# Altium schematic symbol library PowerSupply.SchLib: 43 symbols (part 2 of 2)
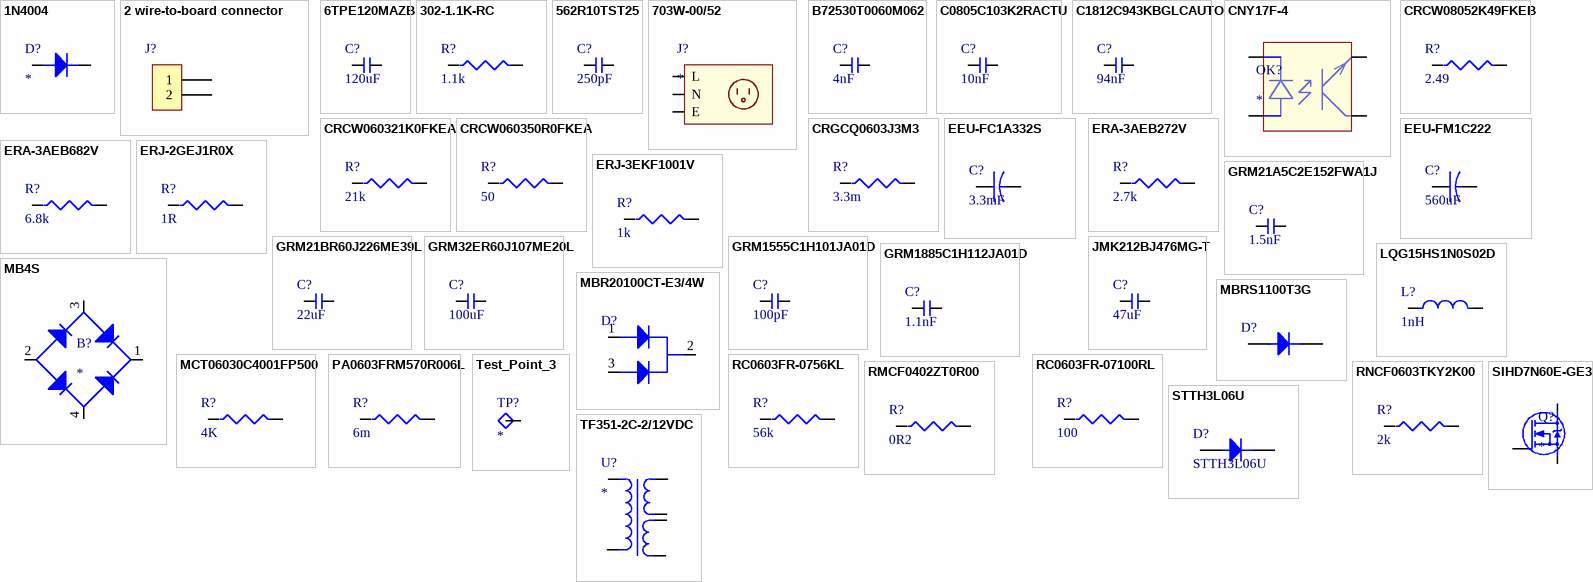
[diagram p2: symbols 1N4004 to TF351-2C-2/12VDC]

## MB4S
designator B?
Rectifier Bridge Diode Single 400V 0.5A 4-Pin SOIC N T/R / IC RECT BRIDGE 0.5A 400V 4SOIC; Manufacturer: ON Semiconductor / Fairchild; Manufacturer Part Number: MB4S; Supplier 1: Future Electronics; RoHS: Yes; Category: Rectifier Diodes; Stock 1: 6000; Pricing 1: 3000=0.114, 6000=0.111, 9000=0.11, 12000=0.109, 15000=0.106, 45000=0.106 (USD); Reverse Voltage: 400V; ComponentLink1URL: https://datasheet.ciiva.com/4433/mb4s-186124-4433195.pdf?src-supplier=Mouser; ComponentLink1Description: https://datasheet.ciiva.com/4433/mb4s-186124-4433195.pdf?src-supplier=Mouser; ComponentLink2URL: https://datasheet.ciiva.com/17038/mb4s-17038344.pdf?src-supplier=Future+Electronics; ComponentLink2Description: https://datasheet.ciiva.com/17038/mb4s-17038344.pdf?src-supplier=Future+Electronics; ComponentLink3URL: https://datasheet.ciiva.com/1197/1794557-1197746.pdf?src-supplier=Farnell; ComponentLink3Description: https://datasheet.ciiva.com/1197/1794557-1197746.pdf?src-supplier=Farnell; ComponentLink4URL: https://datasheet.ciiva.com/15145/getdatasheetpartid-117252-15145288.pdf?src-supplier=Verical; ComponentLink4Description: https://datasheet.ciiva.com/15145/getdatasheetpartid-117252-15145288.pdf?src-supplier=Verical; ComponentLink5URL: https://datasheet.ciiva.com/11195/mb8s-11195767.pdf?src-supplier=Avnet; ComponentLink5Description: https://datasheet.ciiva.com/11195/mb8s-11195767.pdf?src-supplier=Avnet; ComponentLink6URL: https://datasheet.ciiva.com/8018/1827136-8018971.pdf?src-supplier=Element14; ComponentLink6Description: https://datasheet.ciiva.com/8018/1827136-8018971.pdf?src-supplier=Element14; ComponentLink7URL: https://datasheet.ciiva.com/43505/974489-43505307.pdf?src-supplier=Jameco; ComponentLink7Description: https://datasheet.ciiva.com/43505/974489-43505307.pdf?src-supplier=Jameco; ComponentLink8URL: https://datasheet.ciiva.com/885/mb1s-885510.pdf?src-supplier=Digikey; ComponentLink8Description: https://datasheet.ciiva.com/885/mb1s-885510.pdf?src-supplier=Digikey; ComponentLink9URL: https://datasheet.ciiva.com/885/mb1s-885511.pdf?src-supplier=Digikey; ComponentLink9Description: https://datasheet.ciiva.com/885/mb1s-885511.pdf?src-supplier=Digikey; ComponentLink10URL: https://datasheet.ciiva.com/885/mb1s-885512.pdf?src-supplier=Digikey; ComponentLink10Description: https://datasheet.ciiva.com/885/mb1s-885512.pdf?src-supplier=Digikey; ComponentLink11URL: https://datasheet.ciiva.com/11195/mb8s-11195766.pdf?src-supplier=Avnet; ComponentLink11Description: https://datasheet.ciiva.com/11195/mb8s-11195766.pdf?src-supplier=Avnet
footprint MB4S
pins: 1, 2, 3, 4

## MBR20100CT-E3/4W
designator D?, comment MBR20100  (value not drawn)
Dual Common-Cathode High-Voltage Schottky Rectifier | DIODE ARRAY SCHOTTKY 100V TO220; Manufacturer: Vishay Semiconductors; Manufacturer Part Number: MBR20100CT-E3/4W; Supplier 1: Mouser; RoHS: Yes; Category: Rectifier Diodes; Stock 1: 7167; Pricing 1: 1=1.46, 10=1.2, 50=1.2, 100=0.93, 1000=0.622, 10000=0.532 (USD); ComponentLink1URL: https://datasheet.ciiva.com/16446/mbrb2080-16446902.pdf?src-supplier=Future+Electronics; ComponentLink1Description: https://datasheet.ciiva.com/16446/mbrb2080-16446902.pdf?src-supplier=Future+Electronics
footprint MBR20100
pins: 1 A, 2 C, 3 A

## MBRS1100T3G
designator D?, comment MBRS1100  (value not drawn)
VR=100V IF=1A; Manufacturer: ON Semiconductor; Manufacturer Part Number: MBRS1100T3G; Polarity: Standard; Voltage Rating (DC): 100V; Current Rating: 1A; Forward Voltage: 750mV; Max Reverse Current: 500uA; Max Surge Current: 50A; Element Configuration: Single; Supplier 1: Digi-Key; RoHS: Yes; Category: Schottky Diodes; Pricing 1: 1=0.47, 10=0.368, 100=0.2209, 500=0.20452, 1000=0.13908 (USD); Case/Package: SMB; Number of Pins: 2; Min Operating Temperature: -65°C; Max Operating Temperature: 175°C; Packaging: Tape and Reel; Output Current: 1A; Package Quantity: 1; Average Rectified Current: 1A; Max Reverse Voltage (DC): 100V; Max Reverse Leakage Current: 500uA; Max Repetitive Reverse Voltage (Vrrm): 100V; Max Forward Surge Current (Ifsm): 50A; Series: -; Forward Current: 1A; Peak Non-Repetitive Surge Current: 50A; Length: 4.32mm; Width: 3.56mm; Height: 2.13mm; Radiation Hardening: No; Lead Free: Lead Free; RoHS Compliant: Yes; Reach SVHC Compliant: No; Halogen Free: Halogen Free; ComponentLink1URL: https://datasheet.ciiva.com/14168/bwonsemico-schottky-diode-mbrs1100-en-14168057.pdf?src-supplier=Distrelec; ComponentLink1Description: https://datasheet.ciiva.com/14168/bwonsemico-schottky-diode-mbrs1100-en-14168057.pdf?src-supplier=Distrelec; ComponentLink2URL: https://datasheet.ciiva.com/34301/865813-34301615.pdf?src-supplier=Jameco; ComponentLink2Description: https://datasheet.ciiva.com/34301/865813-34301615.pdf?src-supplier=Jameco; ComponentLink3URL: https://datasheet.ciiva.com/16201/mbrs1100t3-d-16201409.pdf?src-supplier=Future+Electronics; ComponentLink3Description: https://datasheet.ciiva.com/16201/mbrs1100t3-d-16201409.pdf?src-supplier=Future+Electronics; ComponentLink4URL: https://datasheet.ciiva.com/14560/70099502-14560061.pdf?src-supplier=Allied+Electronics; ComponentLink4Description: https://datasheet.ciiva.com/14560/70099502-14560061.pdf?src-supplier=Allied+Electronics; ComponentLink5URL: https://datasheet.ciiva.com/7962/1708274-7962807.pdf?src-supplier=Element14; ComponentLink5Description: https://datasheet.ciiva.com/7962/1708274-7962807.pdf?src-supplier=Element14; ComponentLink6URL: https://datasheet.ciiva.com/7962/1708274-7962806.pdf?src-supplier=Element14; ComponentLink6Description: https://datasheet.ciiva.com/7962/1708274-7962806.pdf?src-supplier=Element14; ComponentLink7URL: https://datasheet.ciiva.com/8299/mbrs1100t3-d-8299829.pdf?src-supplier=Avnet; ComponentLink7Description: https://datasheet.ciiva.com/8299/mbrs1100t3-d-8299829.pdf?src-supplier=Avnet; ComponentLink8URL: https://datasheet.ciiva.com/15144/getdatasheetpartid-91859-15144701.pdf?src-supplier=Verical; ComponentLink8Description: https://datasheet.ciiva.com/15144/getdatasheetpartid-91859-15144701.pdf?src-supplier=Verical; ComponentLink9URL: https://datasheet.ciiva.com/915/mbrs1100t3-d-915741.pdf?src-supplier=Digi-Key; ComponentLink9Description: https://datasheet.ciiva.com/915/mbrs1100t3-d-915741.pdf?src-supplier=Digi-Key; ComponentLink10URL: https://datasheet.ciiva.com/915/mbrs1100t3-d-915742.pdf?src-supplier=Digi-Key; ComponentLink10Description: https://datasheet.ciiva.com/915/mbrs1100t3-d-915742.pdf?src-supplier=Digi-Key; ComponentLink11URL: https://datasheet.ciiva.com/915/mbrs1100t3-d-915740.pdf?src-supplier=Digi-Key; ComponentLink11Description: https://datasheet.ciiva.com/915/mbrs1100t3-d-915740.pdf?src-supplier=Digi-Key
footprint MBRS1100
pins: A, K

## MCT06030C4001FP500
designator R?, comment 4K
MCT Series Professional Thin Film Chip Resistor 0603 4K Ohm 1% Tolerance 0.125W ±50 ppm/K Surface Mount 2-Pin SMD...; Manufacturer: Vishay Beyschlag; Manufacturer Part Number: MCT06030C4001FP500; Resistance: 4kR; Supplier 1: Digikey; RoHS: Yes; Category: Chip SMD Resistors; Pricing 1: 5000=0.01939, 10000=0.0181, 25000=0.01719, 50000=0.01685, 125000=0.01648 (USD); RoHS Compliant: Yes; Lead Free: 5697LeadFree; ComponentLink1URL: http://www.vishay.com/docs/28705/mcx0x0xpro.pdf?src-supplier=Digikey; ComponentLink1Description: http://www.vishay.com/docs/28705/mcx0x0xpro.pdf?src-supplier=Digikey
footprint R0603
pins: 1, 2

## PA0603FRM570R006L
designator R?, comment 6m
Resistor Current Sense Metal Substrate 0603 6mOhm ±1% 1/2W ±50ppm/°C Paper T/R Automotive; Manufacturer: Yageo; Manufacturer Part Number: PA0603FRM570R006L; Supplier 1: Digikey; Category: Chip SMD Resistors; Pricing 1: 5000=0.10194 (USD); ComponentLink1URL: https://datasheet.octopart.com/PA0603FRM570R006L-Yageo-datasheet-86814980.pdf; ComponentLink1Description: https://datasheet.octopart.com/PA0603FRM570R006L-Yageo-datasheet-86814980.pdf
footprint R0603
pins: 1, 2

## RC0603FR-0756KL
designator R?, comment 56k
SMD Chip Resistor, 56 kOhm, ± 1%, 100 mW, 0603 [1608 Metric], Thick Film, General Purpose; Manufacturer: Yageo; Manufacturer Part Number: RC0603FR-0756KL; Resistance: 56kR; Power Rating: 100mW; Voltage Rating: 75V; Temperature Coefficient: 100ppm/°C; Voltage Rating (DC): 50V; Supplier 1: Future Electronics; RoHS: Yes; Category: Chip SMD Resistors; Stock 1: 8005000; Pricing 1: 5000=0.0015, 75000=0.0014, 200000=0.0013, 500000=0.0013, 1250000=0.0012 (USD); Case/Package: 0603; Number of Pins: 2; Case Code (Metric): 1608; Case Code (Imperial): 0603; Weight: 7.1E-05oz; Size Code: 0603; Min Operating Temperature: -55°C; Max Operating Temperature: 155°C; Tolerance: 1%; Packaging: Tape and Reel; Resistor Type: Thick Film; Termination: SMD/SMT; Series: RC; Number of Terminations: 2; Max Power Dissipation: 100mW; Features: Moisture Resistant; Resistance Tolerance: 1%; Construction: Rectangular; Voltage Rating (AC): 50V; Length: 1.6mm; Width: 0.8mm; Height: 0.45mm; Depth: 0.8mm; RoHS Compliant: Yes; Military Standard: Not; Reach SVHC Compliant: Unknown; Lead Free: 5697LeadFree; ComponentLink1URL: https://datasheet.ciiva.com/2508/pyu-r-int-thick-7-2508519.pdf?src-supplier=Digikey; ComponentLink1Description: https://datasheet.ciiva.com/2508/pyu-r-int-thick-7-2508519.pdf?src-supplier=Digikey; ComponentLink2URL: https://datasheet.ciiva.com/2508/pyu-r-int-thick-7-2508520.pdf?src-supplier=Digikey; ComponentLink2Description: https://datasheet.ciiva.com/2508/pyu-r-int-thick-7-2508520.pdf?src-supplier=Digikey; ComponentLink3URL: https://datasheet.ciiva.com/7746/443971-7746377.pdf?src-supplier=Element14; ComponentLink3Description: https://datasheet.ciiva.com/7746/443971-7746377.pdf?src-supplier=Element14; ComponentLink4URL: https://datasheet.ciiva.com/15189/getdatasheetpartid-329310-15189781.pdf?src-supplier=Verical; ComponentLink4Description: https://datasheet.ciiva.com/15189/getdatasheetpartid-329310-15189781.pdf?src-supplier=Verical; ComponentLink5URL: https://datasheet.ciiva.com/2508/pyu-r-int-thick-7-2508518.pdf?src-supplier=Digikey; ComponentLink5Description: https://datasheet.ciiva.com/2508/pyu-r-int-thick-7-2508518.pdf?src-supplier=Digikey; ComponentLink6URL: https://datasheet.ciiva.com/7746/443971-7746376.pdf?src-supplier=Element14; ComponentLink6Description: https://datasheet.ciiva.com/7746/443971-7746376.pdf?src-supplier=Element14
footprint R0603
pins: 1, 2

## RC0603FR-07100RL
designator R?, comment 100
SMD Chip Resistor, 100 Ohm, ± 1%, 100 mW, 0603 [1608 Metric], Thick Film, General Purpose; Manufacturer: Yageo; Manufacturer Part Number: RC0603FR-07100RL; Voltage Rating (DC): 50V; Resistance: 100R; Power Rating: 100mW; Temperature Coefficient: 100ppm/°C; Supplier 1: Future Electronics; RoHS: Yes; Category: Chip SMD Resistors; Stock 1: 15275000; Pricing 1: 5000=0.0015, 50000=0.0014, 150000=0.0014, 375000=0.0013, 1000000=0.0012 (USD); Case/Package: 0603; Number of Pins: 2; Case Code (Imperial): 0603; Case Code (Metric): 1608; Size Code: 0603; Min Operating Temperature: -55°C; Max Operating Temperature: 155°C; Voltage Rating: 50V; Tolerance: 1%; Packaging: Tape and Reel; Series: RC; Termination: SMD/SMT; Resistance Tolerance: 1%; Max Power Dissipation: 100mW; Number of Terminations: 2; Technology: THICK FILM; Features: Moisture Resistant; Construction: Rectangular; Resistor Type: Thick Film; Length: 1.6mm; Width: 0.8mm; Height: 0.45mm; Depth: 0.8mm; Lead Free: Lead Free; RoHS Compliant: Yes; Reach SVHC Compliant: Unknown; Military Standard: Not
footprint R0603 (Guidelines for Footprint Design - Walsin Technology Corporation)
pins: 1, 2

## RMCF0402ZT0R00
designator R?, comment 0R2
Res Thick Film 0402 0 Ohm Jumper Molded SMD Paper T/R; Manufacturer: Stackpole Electronics; Manufacturer Part Number: RMCF0402ZT0R00; Resistance: 0R; Power Rating: 63mW; Current Rating: 1A; Working Voltage: 50V; Supplier 1: Arrow Electronics; RoHS: Yes; Category: Chip SMD Resistors; Stock 1: 1190000; Pricing 1: 10000=0.0012, 30000=0.0011 (USD); Mount: Surface Mount; Case/Package: 0402; Case Code (Metric): 1005; Case Code (Imperial): 0402; Contact Plating: Tin,Matte; Min Operating Temperature: -55°C; Max Operating Temperature: 155°C; Packaging: Tape and Reel; Number of Terminations: 2; Max Power Dissipation: 63mW; Features: Automotive AEC-Q200; Series: RMCF; Technology: THICK FILM; Construction: Rectangular; Voltage Rating: 50V; Length: 0.039inch; Width: 0.02inch; Height: 0.016inch; Depth: 0.5mm; Radiation Hardening: No; Military Standard: Not; RoHS Compliant: Yes; Lead Free: 5697LeadFree; ComponentLink1URL: https://datasheet.ciiva.com/26835/getdatasheetpartid-409751-26835612.pdf?src-supplier=Verical; ComponentLink1Description: https://datasheet.ciiva.com/26835/getdatasheetpartid-409751-26835612.pdf?src-supplier=Verical
footprint R0402
pins: 1, 2

## RNCF0603TKY2K00
designator R?, comment 2k
RNCF Precision Thin Film Chip Resistor 0603 Size 2K Ohm 0.01% 0.1 W 5 ppm/°C 2-Pin SMD T/R; Manufacturer: Stackpole Electronics; Manufacturer Part Number: RNCF0603TKY2K00; Resistance: 2kR; Max Power Dissipation: 100mW; Voltage Rating: 75V; Supplier 1: Arrow Electronics; RoHS: Yes; Category: Chip SMD Resistors; Stock 1: 494; Pricing 1: 1=1.8516, 10=1.5643, 25=1.415, 100=1.196, 250=1.1894, 500=0.8725 (USD); Mount: Surface Mount; Case/Package: 0603; Case Code (Metric): 1608; Case Code (Imperial): 0603; Min Operating Temperature: -55°C; Max Operating Temperature: 155°C; Packaging: Tape and Reel; Number of Terminations: 2; Tolerance: 0.01%; Temperature Coefficient: 5ppm/°C; Features: Moisture Resistant,Automotive AEC-Q200; Series: RNCF; Length: 0.063inch; Width: 0.031inch; Height: 0.022inch; Ratings: AEC-Q200; RoHS Compliant: Yes; ComponentLink1URL: https://www.seielect.com/Catalog/SEI-RNCF.pdf?src-supplier=Digikey; ComponentLink1Description: https://www.seielect.com/Catalog/SEI-RNCF.pdf?src-supplier=Digikey; ComponentLink2URL: https://www.seielect.com/catalog/SEI-Packaging.pdf?src-supplier=Digikey; ComponentLink2Description: https://www.seielect.com/catalog/SEI-Packaging.pdf?src-supplier=Digikey
footprint R0603 (Guidelines for Footprint Design - Walsin Technology Corporation)
pins: 1, 2

## SIHD7N60E-GE3
designator Q?
MOSFET N-CH 600V 7A TO-252; Manufacturer: Vishay Siliconix; Manufacturer Part Number: SIHD7N60E-GE3; Supplier 1: Mouser; RoHS: Yes; Category: MOSFETs; Stock 1: 503; Pricing 1: 1=1.93, 10=1.56, 50=1.56, 100=1.26, 1000=0.871, 10000=0.81 (USD); ComponentLink1URL: https://datasheet.ciiva.com/23724/sihd7n60e-23724242.pdf?src-supplier=Newark; ComponentLink1Description: https://datasheet.ciiva.com/23724/sihd7n60e-23724242.pdf?src-supplier=Newark; ComponentLink2URL: https://datasheet.ciiva.com/8024/sihd7n60e-8024248.pdf?src-supplier=Element14; ComponentLink2Description: https://datasheet.ciiva.com/8024/sihd7n60e-8024248.pdf?src-supplier=Element14; ComponentLink3URL: https://datasheet.ciiva.com/6385/sihd7n60e-6385853.pdf?src-supplier=Digikey; ComponentLink3Description: https://datasheet.ciiva.com/6385/sihd7n60e-6385853.pdf?src-supplier=Digikey
footprint SIHD7N60E-GE3
pins: D, G, S

## STTH3L06U
designator D?
Rectifiers  3A 600V; Manufacturer: STMICROELECTRONICS; Manufacturer Part Number: BAS16; Configuration: Single; Max Surge Current: 2 A; Recovery Time: 85ns; Ir - Reverse Current: 100 µA; Vf - Forward Voltage: 1.3V; Supplier 1: Farnell; RoHS: RoHS Compliant By Exemption; Category: Rectifiers; Stock 1: 125533; Package / Case: SMB; Packaging: Reel; Product: Fast / Ultrafast Diode; Series: STTH3 Series; Brand: STMICROELECTRONICS; Mounting Style: SMD/SMT; If - Forward Current: 3A; Maximum Operating Temperature: 175°C; Minimum Operating Temperature: - 55 C; Standard Pack Qty: 7500; Vr - Reverse Voltage: 600 V; RoHS - Mouser: E; Minimum Order Quantity: 1; Reeling: True; ComponentLink1URL: http://ro.farnell.com/stmicroelectronics/stth3l06u/diode-standard-3a-600v-do-214aa/dp/2341600; ComponentLink1Description: http://ro.farnell.com/stmicroelectronics/stth3l06u/diode-standard-3a-600v-do-214aa/dp/2341600; Supplier Part Number 1: 2341600
footprint STTH3L06U
pins: A, K

## Test_Point_3
designator TP?
footprint TestPoint
pins: 1

## TF351-2C-2/12VDC
designator U?
TF351-2C-2/12VDC Unchecked Electromechanical Relay DPDT 5A 12VDC 134Ohm Plug-In Uncategorized
footprint TF351-2C-2/12VDC
pins: 1, 3, 8, 10, 12, 14

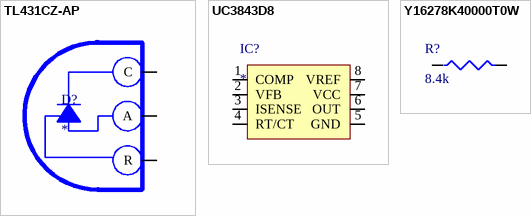
[diagram p1: symbols TL431CZ-AP to Y16278K40000T0W]

## TL431CZ-AP
designator D?
V-Ref Adjustable 2.495V to 36V 100mA 3-Pin TO-92 Ammo; Manufacturer: STMicroelectronics; Manufacturer Part Number: TL431CZ-AP; Max Input Voltage: 37V; Reference Type: Shunt,Adjustable; Tolerance: 2.21%; Cathode Current: 1mA; Temperature Coefficient: 100ppm/°C; Number of Channels: 1; Accuracy: 2%; Output Impedance: 500mR; Supplier 1: Mouser; RoHS: Yes; Category: Voltage References; Stock 1: 652; Pricing 1: 1=0.46, 10=0.341, 50=0.341, 100=0.23, 1000=0.143, 10000=0.116 (USD); Mount: Through Hole; Case/Package: TO-92; Min Operating Temperature: 0°C; Max Operating Temperature: 70°C; Packaging: Cut Tape; Max Output Voltage: 36V; Series: -; Package Quantity: 2000; Max Output Current: 100mA; Reference Voltage: 2.495V; Output Voltage: 36V; Output Current: 100mA; Min Output Voltage: 2.495V; Output Type: Adjustable; Supply Current: 100mA; RoHS Compliant: Yes; Lead Free: Lead Free; ComponentLink1URL: https://datasheet.ciiva.com/4909/cd00000986-4909435.pdf?src-supplier=Mouser; ComponentLink1Description: https://datasheet.ciiva.com/4909/cd00000986-4909435.pdf?src-supplier=Mouser; ComponentLink2URL: https://datasheet.ciiva.com/2011/cd00000986-2011433.pdf?src-supplier=Digikey; ComponentLink2Description: https://datasheet.ciiva.com/2011/cd00000986-2011433.pdf?src-supplier=Digikey
footprint TL431CZ-AP
pins: A, C, R

## UC3843D8
designator IC?
Single ended 500KHz current mode PWM controller with 8.4V/7.6V UVLO 100% duty cycle, 0C to 70C 8-SOIC 0 to 70; Manufacturer: Texas Instruments; Manufacturer Part Number: UC3843D8; Topology: Buck-Boost,Flyback; Output Current: 1A; Output Voltage: 5V; Number of Outputs: 1; Rise Time: 50ns; Max Supply Voltage: 30V; Quiescent Current: 11mA; Frequency: 450kHz; Power Dissipation: 650mW; Min Supply Voltage: 12V; Supplier 1: Mouser; RoHS: Yes; Category: Voltage Regulators - Switching; Stock 1: 471; Pricing 1: 1=1.57, 10=1.33, 50=1.33, 100=1.02, 1000=0.901, 10000=0.624 (USD); Case/Package: D; Number of Pins: 8; Weight: 0.002561oz; Min Operating Temperature: 0°C; Max Operating Temperature: 70°C; Packaging: Rail/Tube; Switching Frequency: 500kHz; Max Duty Cycle: 100%; Package Quantity: 75; Series: -; Fall Time: 50ns; Duty Cycle: 100%; Input Current: 11mA; Max Frequency: 500kHz; Operating Supply Current: 11mA; Radiation Hardening: No; RoHS Compliant: Yes; Lead Free: Lead Free; Reach SVHC Compliant: No; ComponentLink1URL: https://datasheet.ciiva.com/15108/getdatasheetpartid-234476-15108333.pdf?src-supplier=Verical; ComponentLink1Description: https://datasheet.ciiva.com/15108/getdatasheetpartid-234476-15108333.pdf?src-supplier=Verical; ComponentLink2URL: https://datasheet.ciiva.com/41463/001015242-da-01-en-ic-reg-ctrlr-pwm-cm-uc3843d8-soic-8-tid-41463081.pdf?src-supplier=Conrad; ComponentLink2Description: https://datasheet.ciiva.com/41463/001015242-da-01-en-ic-reg-ctrlr-pwm-cm-uc3843d8-soic-8-tid-41463081.pdf?src-supplier=Conrad; ComponentLink3URL: https://datasheet.ciiva.com/1513/1863689-1513191.pdf?src-supplier=Element14; ComponentLink3Description: https://datasheet.ciiva.com/1513/1863689-1513191.pdf?src-supplier=Element14; ComponentLink4URL: https://datasheet.ciiva.com/2015/uc3842-2015741.pdf?src-supplier=Digikey; ComponentLink4Description: https://datasheet.ciiva.com/2015/uc3842-2015741.pdf?src-supplier=Digikey; ComponentLink5URL: https://datasheet.ciiva.com/14264/slus223c-14264762.pdf?src-supplier=Avnet; ComponentLink5Description: https://datasheet.ciiva.com/14264/slus223c-14264762.pdf?src-supplier=Avnet
footprint UC3843D8
pins: 1 COMP, 2 VFB, 3 ISENSE, 4 RT/CT, 5 GND, 6 OUT, 7 VCC, 8 VREF

## Y16278K40000T0W
designator R?, comment 8.4k
Res SMD 8.4K Ohm 0.01% 1/2W 2010; Manufacturer: VPG Foil Resistors; Manufacturer Part Number: Y16278K40000T0W; Resistance: 8.4kR; Max Power Dissipation: 500mW; Temperature Coefficient: 0.2ppm/°C; Supplier 1: Avnet; RoHS: No; Category: Chip SMD Resistors; Pricing 1: 100=16.6732, 110=16.6732, 210=16.6732, 500=16.6732, 1000=16.6732, 5000=16.6732, 10000=16.6732 (USD); Case/Package: 2010; Case Code (Metric): 5025; Case Code (Imperial): 2010; Min Operating Temperature: -55°C; Max Operating Temperature: 150°C; Package Quantity: 1000; Packaging: Tray; Tolerance: 0.01%; Number of Terminations: 2; Features: Moisture Resistant; Series: VSMP; Length: 0.198inch; Width: 0.097inch; Height: 0.025inch; ComponentLink1URL: https://datasheet.ciiva.com/18612/vsmp-18612758.pdf?src-supplier=Digikey; ComponentLink1Description: https://datasheet.ciiva.com/18612/vsmp-18612758.pdf?src-supplier=Digikey
footprint R2010
pins: 1, 2